# Altium footprint library QUTMS_SDCardLibrary.PcbLib: 1 footprints
Each footprint in its own frame and in the unit in brackets; x right, y up, seen from the top. Pads: shape width x height; smd on the part's side, far side on the other; paste and mask are expansions set on the pad; w line width, h text height; cw(c..) or ccw(c..) is an arc to the next point about the centre after c.
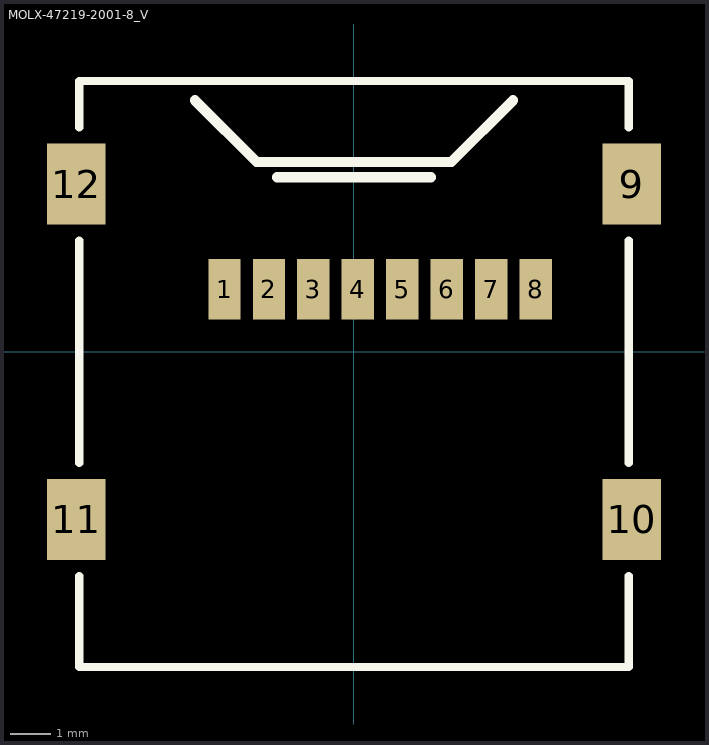
[diagram p0: the footprint, top view; thin cyan lines are the x and y axes]

## MOLX-47219-2001-8_V [mm] "CONN, 8-Leads, Body 14.5x13.6mm, Pitch 1.1mm"
height 1.9
pads (12):
  rect 0.8x1.5 smd: 1(-3.205,1.55) 2(-2.105,1.55) 3(-1.005,1.55) 4(0.095,1.55) 5(1.195,1.55) 6(2.295,1.55) 7(3.395,1.55) 8(4.495,1.55)
  rect 1.45x2 smd: 9(6.875,4.15) 10(6.875,-4.15) 11(-6.875,-4.15) 12(-6.875,4.15)
Top Overlay:
  lines w0.2: -6.8,-5.55 -6.8,-7.8 6.8,-7.8 6.8,-5.55 ; -6.8,-2.75 -6.8,2.75 ; -6.8,5.55 -6.8,6.7 6.8,6.7 6.8,5.55 ; 6.8,-2.75 6.8,2.75
  lines w0.254: -3.937,6.223 -2.413,4.699 0,4.699 2.413,4.699 3.937,6.223 ; -1.905,4.318 1.905,4.318
3D body "472192001.stp": height 1.91, standoff 0.02, extent -7.3,-7.793 7.3,6.707